# Altium schematic symbol library Componentes.SchLib: 31 symbols
Pins are listed as number, name and electrical type; pins without a type are passive.

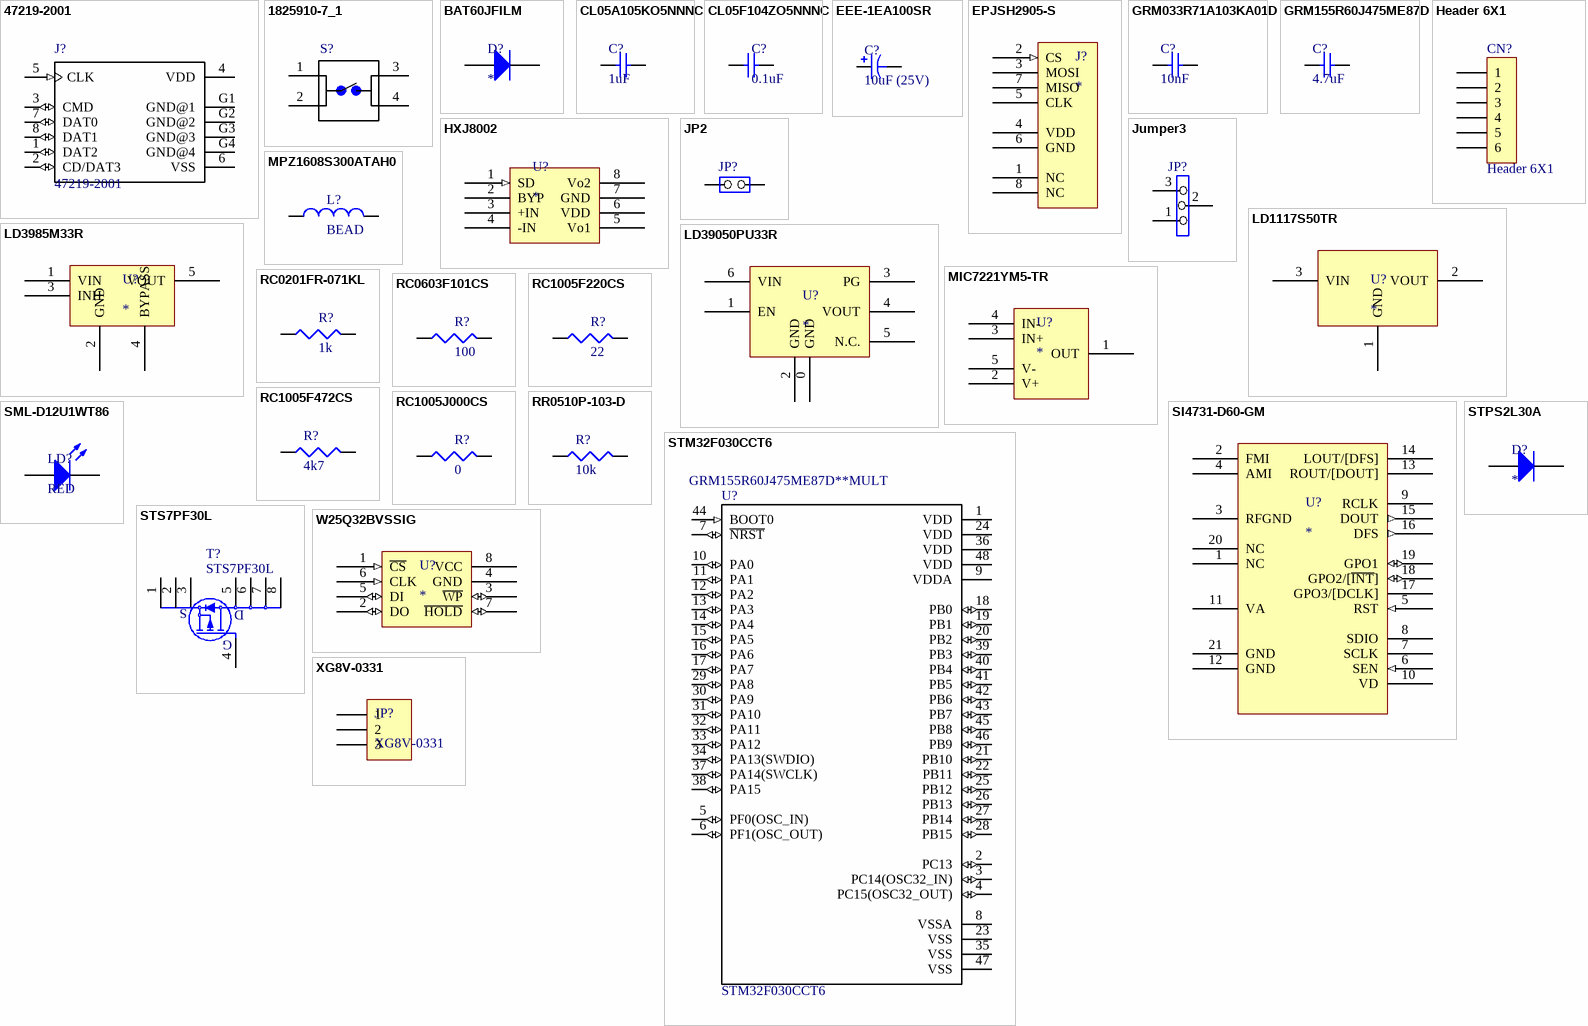
[diagram p0: symbols 47219-2001 to XG8V-0331]

## 47219-2001
designator J?
Conn Micro SD Card SKT 8 POS 1.1mm Solder RA SMD 0.5A/Contact Embossed T/R; MF: Molex; Price: None; MP: 47219-2001; Availability: Unavailable; SnapEDA_Link: https://www.snapeda.com/parts/47219-2001/Molex/view-part/?ref=snap; Package: None; Value: *
footprint MOLEX_47219-2001_47219-2001(Primary)
pins: 1 DAT2 (io), 2 CD/DAT3 (io), 3 CMD (io), 4 VDD (power), 5 CLK (in), 6 VSS (power), 7 DAT0 (io), 8 DAT1 (io), G1 GND@1 (power), G2 GND@2 (power), G3 GND@3 (power), G4 GND@4 (power)

## 1825910-7_1
designator S?, comment Switch  (value not drawn)
FSM4JAH=6MM TACT SWITCH, HIGH TEMP; Manufacturer: TE Connectivity ALCOSWITCH Switches; MF: TE Connectivity; Contact_Current_Rating: 50 mA; Configuration_Pole-Throw: Single Pole - Single Throw; MP: 1825910-7; Circuit: SPST-NO; Switch Function: Off-Mom; Contact Rating @ Voltage: 0.05A @ 24VDC; Actuator Type: Standard; Actuator Height off PCB, Vertical: 5.00mm; Actuator Orientation: Top Actuated; Outline: 6.00mm x 6.00mm; Illumination: Non-Illuminated; Operating Force: 260gf; Actuator Material: Polybutylene Terephthalate (PBT); Switch Travel: 0.25mm; Mechanical Life: 100,000 Cycles; Checked: 0; Link: http://www.te.com/usa-en/product-1825910-7.html; Price: 0.06 USD; Package: None; Availability: Good; SnapEDA_Link: https://www.snapeda.com/parts/1825910-7/TE%2520Connectivity%2520/%2520DEUTSCH/view-part/?ref=snap; EU_RoHS_Compliance: Compliant; Value: *; Supplier 1: Digi-Key; Manufacturer Part Number: 1825910-7; RoHS: RoHS Compliant; Category: Switches; Stock 1: 86118; Pricing 1: 1=0.09, 10=0.088, 25=0.0852, 50=0.0824, 100=0.0779, 250=0.07328, 500=0.07022, 1000=0.05343, 5000=0.04427 (EUR); Packaging: Bulk; Part Status: Active; Mounting Type: Through Hole; Actuator Length, Right Angle: -; Termination Style: PC Pin; Illumination Type, Color: -; Illumination Voltage (Nominal): -; Ingress Protection: -; Features: -; Operating Temperature: -35°C ~ 85°C; ComponentLink1URL: http://www.te.com/commerce/DocumentDelivery/DDEController?Action=srchrtrv&DocNm=1825910&DocType=Customer+Drawing&DocLang=English; ComponentLink1Description: http://www.te.com/commerce/DocumentDelivery/DDEController?Action=srchrtrv&DocNm=1825910&DocType=Customer+Drawing&DocLang=English; Supplier Part Number 1: 450-1804-ND
footprint SW_1825910-7
pins: 1, 2, 3, 4

## BAT60JFILM
designator D?
DIODE SCHOTTKY 10V 3A SOD323; Manufacturer: STMicroelectronics; Manufacturer Part Number: BAT60JFILM; Current - Average Rectified (Io): 3A (DC); Speed: Fast Recovery =< 500ns, > 200mA (Io); Checked: 0; Supplier 1: Digi-Key; RoHS: RoHS Compliant; Category: Discrete Semiconductor Products; Stock 1: 51918; Pricing 1: 1=0.34, 10=0.253, 100=0.1575, 500=0.10778, 1000=0.08292 (EUR); Packaging: Cut Tape (CT); Part Status: Active; Diode Type: Schottky; Capacitance @ Vr, F: -; Mounting Type: Surface Mount; Package / Case: SC-76, SOD-323; Supplier Device Package: SOD-323; Operating Temperature - Junction: 150°C (Max); Base Part Number: BAT60J; ComponentLink1URL: http://www.st.com/content/ccc/resource/technical/document/datasheet/3d/d2/27/1d/20/e3/4d/48/CD00001944.pdf/files/CD00001944.pdf/jcr:content/translations/en.CD00001944.pdf; ComponentLink1Description: http://www.st.com/content/ccc/resource/technical/document/datasheet/3d/d2/27/1d/20/e3/4d/48/CD00001944.pdf/files/CD00001944.pdf/jcr:content/translations/en.CD00001944.pdf; Supplier Part Number 1: 497-3707-1-ND
pins: 1 A, 2 K

## CL05A105KO5NNNC
designator C?, comment 1uF
CAP CER 1UF 16V X5R 0402; Manufacturer: Samsung Electro-Mechanics; Manufacturer Part Number: CL05A105KO5NNNC; Tolerance: ±10%; Notification: Current market demand for these product types have resulted in fluctuating and extending lead times. Lead times may differ.; Supplier 1: Digi-Key; RoHS: RoHS Compliant; Category: Capacitors; Stock 1: 0; Pricing 1: 1=0.07, 10=0.043, 100=0.0188, 500=0.01338, 1000=0.01052, 2500=0.00956, 5000=0.0088 (EUR); Packaging: Cut Tape (CT); Part Status: Active; Voltage - Rated: 16V; Temperature Coefficient: X5R; Operating Temperature: -55°C ~ 85°C; Features: -; Ratings: -; Applications: General Purpose; Mounting Type: Surface Mount, MLCC; Package / Case: 0402 (1005 Metric); Size / Dimension: 0.039" L x 0.020" W (1.00mm x 0.50mm); Height - Seated (Max): -; Thickness (Max): 0.022" (0.55mm); Lead Spacing: -; Lead Style: -; ComponentLink1URL: http://www.samsungsem.com/kr/support/product-search/mlcc/CL05A105KO5NNNC.jsp; ComponentLink1Description: http://www.samsungsem.com/kr/support/product-search/mlcc/CL05A105KO5NNNC.jsp; Supplier Part Number 1: 1276-1067-1-ND
pins: 1, 2

## CL05F104ZO5NNNC
designator C?, comment 0.1uF
CAP CER 0.1UF 16V Y5V 0402; Manufacturer: Samsung Electro-Mechanics; Manufacturer Part Number: CL05F104ZO5NNNC; Tolerance: -20%, +80%; Temperature Coefficient: Y5V (F); Notification: Current market demand for these product types have resulted in fluctuating and extending lead times. Lead times may differ.; Checked: 0; Supplier 1: Digi-Key; RoHS: RoHS Compliant; Category: Capacitors; Stock 1: 100000; Pricing 1: 1=0.09, 10=0.02, 100=0.009, 500=0.00642, 1000=0.00506, 2500=0.0046, 5000=0.00423 (EUR); Packaging: Cut Tape (CT); Part Status: Active; Voltage - Rated: 16V; Operating Temperature: -30°C ~ 85°C; Features: -; Ratings: -; Applications: General Purpose; Mounting Type: Surface Mount, MLCC; Package / Case: 0402 (1005 Metric); Size / Dimension: 0.039" L x 0.020" W (1.00mm x 0.50mm); Height - Seated (Max): -; Thickness (Max): 0.022" (0.55mm); Lead Spacing: -; Lead Style: -; ComponentLink1URL: http://www.samsungsem.com/kr/support/product-search/mlcc/CL05F104ZO5NNNC.jsp; ComponentLink1Description: http://www.samsungsem.com/kr/support/product-search/mlcc/CL05F104ZO5NNNC.jsp; Supplier Part Number 1: 1276-1004-1-ND
pins: 1, 2

## EEE-1EA100SR
designator C?, comment 10uF (25V)
CAP ALUM 10UF 20% 25V SMD; Manufacturer: Panasonic Electronic Components; Manufacturer Part Number: EEE-1EA100SR; Lifetime @ Temp.: 2000 Hrs @ 85°C; Polarization: Polar; Surface Mount Land Size: 0.209" L x 0.209" W (5.30mm x 5.30mm); Checked: 0; Supplier 1: Digi-Key; RoHS: RoHS Compliant; Category: Capacitors; Stock 1: 11324; Pricing 1: 1=0.26, 10=0.182, 100=0.1093, 500=0.082 (EUR); Packaging: Cut Tape (CT); Part Status: Active; Tolerance: ±20%; ESR (Equivalent Series Resistance): -; Operating Temperature: -40°C ~ 85°C; Ratings: AEC-Q200; Applications: Automotive; Lead Spacing: -; Size / Dimension: 0.197" Dia (5.00mm); Height - Seated (Max): 0.213" (5.40mm); Mounting Type: Surface Mount; Package / Case: Radial, Can - SMD; ComponentLink1URL: https://industrial.panasonic.com/cdbs/www-data/pdf/RDE0000/ABA0000C1145.pdf; ComponentLink1Description: https://industrial.panasonic.com/cdbs/www-data/pdf/RDE0000/ABA0000C1145.pdf; Supplier Part Number 1: PCE3894CT-ND
pins: 1, 2

## EPJSH2905-S
designator J?
EPJSH2905-S; Manufacturer: XTAMEN; Checked: 0; Category: T-flash Connector; Manufacturer Part Number: EPJSH2905-S
pins: 1 NC "Not Used", 2 CS (in) "Chip Select", 3 MOSI (oc) "Master out, salve in", 4 VDD (power) "Possitive Supply", 5 CLK (oc) "Serial Clock", 6 GND (power) "Ground", 7 MISO (oe) "Master in Slave Out", 8 NC "Not Used"

## GRM033R71A103KA01D
designator C?, comment 10nF
CAP CER 10000PF 10V X7R 0201; Manufacturer: Murata Electronics North America; Manufacturer Part Number: GRM033R71A103KA01D; Tolerance: ±10%; Notification: Current market demand for these product types have resulted in fluctuating and extending lead times. Lead times may differ.; Checked: 0; Supplier 1: Digi-Key; RoHS: RoHS Compliant; Category: Capacitors; Stock 1: 150000; Pricing 1: 1=0.09, 10=0.028, 100=0.0126, 500=0.009, 1000=0.00707, 2500=0.00643, 5000=0.00591 (EUR); Packaging: Cut Tape (CT); Part Status: Active; Voltage - Rated: 10V; Temperature Coefficient: X7R; Operating Temperature: -55°C ~ 125°C; Features: -; Ratings: -; Applications: General Purpose; Mounting Type: Surface Mount, MLCC; Package / Case: 0201 (0603 Metric); Size / Dimension: 0.024" L x 0.012" W (0.60mm x 0.30mm); Height - Seated (Max): -; Thickness (Max): 0.013" (0.33mm); Lead Spacing: -; Lead Style: -; ComponentLink1URL: https://www.murata.com/~/media/webrenewal/support/library/catalog/products/capacitor/mlcc/c02e.ashx?la=en-us; ComponentLink1Description: https://www.murata.com/~/media/webrenewal/support/library/catalog/products/capacitor/mlcc/c02e.ashx?la=en-us; Supplier Part Number 1: 490-3194-1-ND
pins: 1, 2

## GRM155R60J475ME87D
designator C?, comment 4.7uF
CAP CER 4.7UF 6.3V X5R 0402; Manufacturer: Murata Electronics North America; Manufacturer Part Number: GRM155R60J475ME87D; Tolerance: ±20%; Notification: Current market demand for these product types have resulted in fluctuating and extending lead times. Lead times may differ.; Checked: 0; Supplier 1: Digi-Key; RoHS: RoHS Compliant; Category: Capacitors; Stock 1: 100000; Pricing 1: 1=0.15, 10=0.11, 100=0.0516, 500=0.03616, 1000=0.02994, 2500=0.02787, 5000=0.02549 (EUR); Packaging: Cut Tape (CT); Part Status: Active; Voltage - Rated: 6.3V; Temperature Coefficient: X5R; Operating Temperature: -55°C ~ 85°C; Features: -; Ratings: -; Applications: General Purpose; Mounting Type: Surface Mount, MLCC; Package / Case: 0402 (1005 Metric); Size / Dimension: 0.039" L x 0.020" W (1.00mm x 0.50mm); Height - Seated (Max): -; Thickness (Max): 0.022" (0.55mm); Lead Spacing: -; Lead Style: -; ComponentLink1URL: https://www.murata.com/~/media/webrenewal/support/library/catalog/products/capacitor/mlcc/c02e.ashx?la=en-us; ComponentLink1Description: https://www.murata.com/~/media/webrenewal/support/library/catalog/products/capacitor/mlcc/c02e.ashx?la=en-us; Supplier Part Number 1: 490-5408-1-ND
pins: 1, 2

## Header 6X1
designator CN?
Header, 6-Pin, Single row; LatestRevisionDate: 17-Jul-2002; LatestRevisionNote: Re-released for DXP Platform.; Publisher: Altium Limited
footprint HDR2X17 (Connector; Header; 17x2 Position)
signal-integrity model Connector
footprint 1*6P (Footprint not found)
pins: 1, 2, 3, 4, 5, 6

## HXJ8002
designator U?
Miniature Audio Amplifier; Manufacturer: Income Technology; Manufacturer Part Number: HXJ8002; Checked: 0; Category: Integrated Circuits (ICs)
footprint SOP127P600X175-8N SOP-8 (SOP, 8-Leads, Body 4,90x3,90mm, Pitch 1,27mm, IPC Medium Density)
pins: 1 SD (in) "The device enters in shutdown mode when a high level is  applied on this pin", 2 BYP "Bypass capacitor pin which provides the common mode voltage", 3 +IN "Positive input of the first amplifier, receives the common mode voltage", 4 -IN "Negative input of the first amplifier, receives the audio input  signal", 5 Vo1 "Negative output", 6 VDD (power) "Analog VDD input supply.", 7 GND (power) "Ground connection for circuitry.", 8 Vo2 "Positive output"

## JP2
designator JP?
Checked: 0
footprint SIP2/2.54
pins: 1 COMMON, 2 NO

## Jumper3
designator JP?
footprint SIP3 (Footprint not found)
pins: 1, 2, 3

## LD1117S50TR
designator U?
IC REG LINEAR 5V 800MA SOT223; Manufacturer: STMicroelectronics; Manufacturer Part Number: LD1117S50TR; Output Configuration: Positive; Output Type: Fixed; Voltage - Input (Max): 15V; Voltage Dropout (Max): 1.2V @ 800mA; PSRR: 75dB (120Hz); Protection Features: Over Current, Over Temperature; Checked: 0; Supplier 1: Digi-Key; RoHS: RoHS Compliant; Category: Integrated Circuits (ICs); Stock 1: 0; Pricing 1: 1=0.36, 10=0.307, 100=0.2292, 500=0.1801, 1000=0.13917 (EUR); Packaging: Cut Tape (CT); Part Status: Active; Voltage - Output (Min/Fixed): 5V; Voltage - Output (Max): -; Current - Output: 800mA; Control Features: -; Operating Temperature: 0°C ~ 125°C; Mounting Type: Surface Mount; Package / Case: TO-261-4, TO-261AA; Supplier Device Package: SOT-223; Base Part Number: LD1117; ComponentLink1URL: http://www.st.com/content/ccc/resource/technical/document/datasheet/99/3b/7d/91/91/51/4b/be/CD00000544.pdf/files/CD00000544.pdf/jcr:content/translations/en.CD00000544.pdf; ComponentLink1Description: http://www.st.com/content/ccc/resource/technical/document/datasheet/99/3b/7d/91/91/51/4b/be/CD00000544.pdf/files/CD00000544.pdf/jcr:content/translations/en.CD00000544.pdf; Supplier Part Number 1: 497-6447-1-ND
pins: 1 GND (power), 2 VOUT (power), 3 VIN (power)

## LD3985M33R
designator U?
IC REG LINEAR 3.3V 150MA SOT23-5; Manufacturer: STMicroelectronics; Manufacturer Part Number: LD3985M33R; Output Configuration: Positive; Output Type: Fixed; Voltage - Input (Max): 6V; Voltage Dropout (Max): 0.1V @ 150mA; PSRR: 60dB ~ 50dB (1kHz ~ 10kHz); Control Features: Enable; Protection Features: Over Current, Over Temperature; Checked: 0; Supplier 1: Digi-Key; RoHS: RoHS Compliant; Category: Integrated Circuits (ICs); Stock 1: 4402; Pricing 1: 1=0.53, 10=0.462, 100=0.3544, 500=0.28016, 1000=0.22413 (EUR); Packaging: Cut Tape (CT); Part Status: Active; Voltage - Output (Min/Fixed): 3.3V; Voltage - Output (Max): -; Current - Output: 150mA; Operating Temperature: -40°C ~ 125°C; Mounting Type: Surface Mount; Package / Case: SC-74A, SOT-753; Supplier Device Package: SOT-23-5; Base Part Number: LD3985; ComponentLink1URL: http://www.st.com/content/ccc/resource/technical/document/datasheet/group2/96/39/79/10/c9/1a/48/92/CD00003395/files/CD00003395.pdf/jcr:content/translations/en.CD00003395.pdf; ComponentLink1Description: http://www.st.com/content/ccc/resource/technical/document/datasheet/group2/96/39/79/10/c9/1a/48/92/CD00003395/files/CD00003395.pdf/jcr:content/translations/en.CD00003395.pdf; Supplier Part Number 1: 497-3504-1-ND
pins: 1 VIN "Input voltage of the LDO", 2 GND "Common ground", 3 INH ""Inhibit input voltage: ON mode when VINH  1.2 V, OFF mode when VINH", 4 BYPASS " 0.4 V (Do not leave it floating, not internally pulled down/up)"", 5 VOUT "Bypass pin: an external capacitor (usually 10 nF) has to be connected to minimize noise voltage"

## LD39050PU33R
designator U?
IC REG LINEAR 3.3V 500MA 6DFN; Manufacturer: STMicroelectronics; Manufacturer Part Number: LD39050PU33R; Output Configuration: Positive; Output Type: Fixed; Voltage - Input (Max): 5.5V; Voltage Dropout (Max): 0.4V @ 500mA; PSRR: 65dB ~ 62dB (1kHz ~ 10kHz); Control Features: Enable, Power Good; Protection Features: Over Current, Over Temperature, Short Circuit; Checked: 0; Supplier 1: Digi-Key; RoHS: RoHS Compliant; Category: Integrated Circuits (ICs); Stock 1: 7317; Pricing 1: 1=0.95, 10=0.853, 100=0.6645, 500=0.54894, 1000=0.43337 (EUR); Packaging: Cut Tape (CT); Part Status: Active; Voltage - Output (Min/Fixed): 3.3V; Voltage - Output (Max): -; Current - Output: 500mA; Operating Temperature: -40°C ~ 125°C; Mounting Type: Surface Mount; Package / Case: 6-VDFN Exposed Pad; Supplier Device Package: 6-DFN (3x3); Base Part Number: LD39050; ComponentLink1URL: http://www.st.com/content/ccc/resource/technical/document/datasheet/12/43/cc/93/21/f6/41/66/CD00227527.pdf/files/CD00227527.pdf/jcr:content/translations/en.CD00227527.pdf; ComponentLink1Description: http://www.st.com/content/ccc/resource/technical/document/datasheet/12/43/cc/93/21/f6/41/66/CD00227527.pdf/files/CD00227527.pdf/jcr:content/translations/en.CD00227527.pdf; Supplier Part Number 1: 497-8716-1-ND
pins: 0 GND "Exposed pad must be connected to GND", 1 EN "Enable pin logic input: low = shutdown, high = active", 2 GND "Common ground", 3 PG "Power Good", 4 VOUT "Output voltage", 5 N.C. "Not connected", 6 VIN "Input voltage of the LDO"

## MIC7221YM5-TR
designator U?
IC COMPARATOR R-R SOT-23-5; Manufacturer: Microchip Technology; Manufacturer Part Number: MIC7221YM5-TR; Output Type: Open Drain; Voltage - Supply, Single/Dual (±): 2.2 V ~ 10 V; Voltage - Input Offset (Max): 10mV @ 5V; Current - Input Bias (Max): 0.5pA @ 5V; Current - Quiescent (Max): 25µA; CMRR, PSRR (Typ): 70dB CMRR, 90dB PSRR; Propagation Delay (Max): 5µs; Supplier 1: Digi-Key; RoHS: RoHS Compliant; Category: Integrated Circuits (ICs); Stock 1: 5779; Pricing 1: 1=0.23, 25=0.1928 (EUR); Packaging: Cut Tape (CT); Part Status: Active; Type: General Purpose; Current - Output (Typ): -; Hysteresis: -; Operating Temperature: -40°C ~ 85°C; Package / Case: SC-74A, SOT-753; Mounting Type: Surface Mount; Supplier Device Package: SOT-23-5; Base Part Number: MIC7221; ComponentLink1URL: http://www.microchip.com/mymicrochip/filehandler.aspx?ddocname=en580607; ComponentLink1Description: http://www.microchip.com/mymicrochip/filehandler.aspx?ddocname=en580607; Supplier Part Number 1: 576-2901-1-ND
footprint SOT95P280X145-5N  SOT-23-5 (M5) (SOT23, 5-Leads, Body 2,90x2,80mm, Pitch 0,95mm, IPC Medium Density)
pins: 1 OUT (power) "Amplifier output", 2 V+ (power) "Positive Supply", 3 IN+ "Noninverting Input", 4 IN- "Inverting Input", 5 V- (power) "Negative Supply"

## MPZ1608S300ATAH0
designator L?, comment BEAD
FERRITE BEAD 30 OHM 0603 1LN; Manufacturer: TDK Corporation; Manufacturer Part Number: MPZ1608S300ATAH0; Filter Type: Power Line; Current Rating (Max): 5A; DC Resistance (DCR) (Max): 10 mOhm; Checked: 0; Circuit: SPST-NO; Switch Function: Off-Mom; Contact Rating @ Voltage: 0.05A @ 24VDC; Actuator Type: Standard; Actuator Height off PCB, Vertical: 5.00mm; Actuator Orientation: Top Actuated; Outline: 6.00mm x 6.00mm; Illumination: Non-Illuminated; Operating Force: 260gf; Actuator Material: Polybutylene Terephthalate (PBT); Switch Travel: 0.25mm; Mechanical Life: 100,000 Cycles; Supplier 1: Digi-Key; RoHS: RoHS Compliant; Category: Filters; Stock 1: 34098; Pricing 1: 1=0.09, 10=0.067, 25=0.0608, 50=0.0548, 100=0.0401, 250=0.02916, 500=0.02674, 1000=0.02309 (EUR); Packaging: Cut Tape (CT); Part Status: Active; Ratings: -; Operating Temperature: -55°C ~ 125°C; Package / Case: 0603 (1608 Metric); Mounting Type: Surface Mount; Height (Max): 0.030" (0.75mm); Size / Dimension: 0.063" L x 0.032" W (1.60mm x 0.80mm); ComponentLink1URL: https://product.tdk.com/info/en/catalog/datasheets/beads_commercial_power_mpz1608_en.pdf; ComponentLink1Description: https://product.tdk.com/info/en/catalog/datasheets/beads_commercial_power_mpz1608_en.pdf; Supplier Part Number 1: 445-1562-1-ND; Supplier 2: Digi-Key; Stock 2: 86118; Pricing 2: 1=0.09, 10=0.088, 25=0.0852, 50=0.0824, 100=0.0779, 250=0.07328, 500=0.07022, 1000=0.05343, 5000=0.04427 (EUR); Actuator Length, Right Angle: -; Termination Style: PC Pin; Illumination Type, Color: -; Illumination Voltage (Nominal): -; Ingress Protection: -; Features: -; ComponentLink2URL: http://www.te.com/commerce/DocumentDelivery/DDEController?Action=srchrtrv&DocNm=1825910&DocType=Customer+Drawing&DocLang=English; ComponentLink2Description: http://www.te.com/commerce/DocumentDelivery/DDEController?Action=srchrtrv&DocNm=1825910&DocType=Customer+Drawing&DocLang=English
pins: 1, 2

## RC0201FR-071KL
designator R?, comment 1k
RES SMD 1K OHM 1% 1/20W 0201; Manufacturer: Yageo; Manufacturer Part Number: RC0201FR-071KL; Power (Watts): 0.05W, 1/20W; Temperature Coefficient: ±200ppm/°C; Checked: 0; Supplier 1: Digi-Key; RoHS: RoHS Compliant; Category: Resistors; Stock 1: 1634525; Pricing 1: 1=0.09, 10=0.039, 100=0.0159, 1000=0.00715, 2500=0.0062, 5000=0.00513 (EUR); Packaging: Cut Tape (CT); Part Status: Active; Tolerance: ±1%; Composition: Thick Film; Features: Moisture Resistant; Operating Temperature: -55°C ~ 125°C; Package / Case: 0201 (0603 Metric); Supplier Device Package: 0201; Size / Dimension: 0.024" L x 0.012" W (0.60mm x 0.30mm); Height - Seated (Max): 0.010" (0.26mm); Failure Rate: -; ComponentLink1URL: http://www.yageo.com/documents/recent/PYu-RC_Group_51_RoHS_L_9.pdf; ComponentLink1Description: http://www.yageo.com/documents/recent/PYu-RC_Group_51_RoHS_L_9.pdf; Supplier Part Number 1: 311-1KMCT-ND
pins: 1, 2

## RC0603F101CS
designator R?, comment 100
RES SMD 100 OHM 1% 1/20W 0201; Manufacturer: Samsung Electro-Mechanics; Manufacturer Part Number: RC0603F101CS; Power (Watts): 0.05W, 1/20W; Temperature Coefficient: ±250ppm/°C; Supplier 1: Digi-Key; RoHS: RoHS Compliant; Category: Resistors; Stock 1: 95449; Pricing 1: 1=0.09, 10=0.067, 100=0.0273, 1000=0.01227, 2500=0.01064, 5000=0.00879 (EUR); Packaging: Cut Tape (CT); Part Status: Active; Tolerance: ±1%; Composition: Thick Film; Features: Moisture Resistant; Operating Temperature: -55°C ~ 125°C; Package / Case: 0201 (0603 Metric); Supplier Device Package: 0201; Size / Dimension: 0.024" L x 0.012" W (0.60mm x 0.30mm); Height - Seated (Max): 0.010" (0.26mm); Failure Rate: -; ComponentLink1URL: http://www.samsungsem.com/kr/support/product-search/chip-resistor/RC0603F101CS.jsp; ComponentLink1Description: http://www.samsungsem.com/kr/support/product-search/chip-resistor/RC0603F101CS.jsp; Supplier Part Number 1: 1276-3601-1-ND
pins: 1, 2

## RC1005F220CS
designator R?, comment 22
RES SMD 22 OHM 1% 1/16W 0402; Manufacturer: Samsung Electro-Mechanics; Manufacturer Part Number: RC1005F220CS; Power (Watts): 0.063W, 1/16W; Temperature Coefficient: ±100ppm/°C; Supplier 1: Digi-Key; RoHS: RoHS Compliant; Category: Resistors; Stock 1: 3036365; Pricing 1: 1=0.09, 10=0.018, 100=0.0074, 1000=0.00332, 2500=0.00288, 5000=0.00238 (EUR); Packaging: Cut Tape (CT); Part Status: Active; Tolerance: ±1%; Composition: Thick Film; Features: Moisture Resistant; Operating Temperature: -55°C ~ 155°C; Package / Case: 0402 (1005 Metric); Supplier Device Package: 0402; Size / Dimension: 0.039" L x 0.020" W (1.00mm x 0.50mm); Height - Seated (Max): 0.016" (0.40mm); Failure Rate: -; ComponentLink1URL: http://www.samsungsem.com/kr/support/product-search/chip-resistor/RC1005F220CS.jsp; ComponentLink1Description: http://www.samsungsem.com/kr/support/product-search/chip-resistor/RC1005F220CS.jsp; Supplier Part Number 1: 1276-3451-1-ND
pins: 1, 2

## RC1005F472CS
designator R?, comment 4k7
RES SMD 4.7K OHM 1% 1/16W 0402; Manufacturer: Samsung Electro-Mechanics; Manufacturer Part Number: RC1005F472CS; Power (Watts): 0.063W, 1/16W; Temperature Coefficient: ±100ppm/°C; Checked: 0; Supplier 1: Digi-Key; RoHS: RoHS Compliant; Category: Resistors; Stock 1: 1137263; Pricing 1: 1=0.09, 10=0.018, 100=0.0074, 1000=0.00332, 2500=0.00288, 5000=0.00238 (EUR); Packaging: Cut Tape (CT); Part Status: Active; Tolerance: ±1%; Composition: Thick Film; Features: Moisture Resistant; Operating Temperature: -55°C ~ 155°C; Package / Case: 0402 (1005 Metric); Supplier Device Package: 0402; Size / Dimension: 0.039" L x 0.020" W (1.00mm x 0.50mm); Height - Seated (Max): 0.016" (0.40mm); Failure Rate: -; ComponentLink1URL: http://www.samsungsem.com/kr/support/product-search/chip-resistor/RC1005F472CS.jsp; ComponentLink1Description: http://www.samsungsem.com/kr/support/product-search/chip-resistor/RC1005F472CS.jsp; Supplier Part Number 1: 1276-3466-1-ND
pins: 1, 2

## RC1005J000CS
designator R?, comment 0
RES SMD 0 OHM JUMPER 1/16W 0402; Manufacturer: Samsung Electro-Mechanics; Manufacturer Part Number: RC1005J000CS; Power (Watts): 0.063W, 1/16W; Supplier 1: Digi-Key; RoHS: RoHS Compliant; Category: Resistors; Stock 1: 8346359; Pricing 1: 1=0.09, 10=0.014, 25=0.01, 50=0.0076, 100=0.0056, 250=0.00424, 500=0.0034, 1000=0.00251, 5000=0.0018 (EUR); Packaging: Cut Tape (CT); Part Status: Active; Tolerance: Jumper; Composition: Thick Film; Features: Moisture Resistant; Temperature Coefficient: -; Operating Temperature: -55°C ~ 155°C; Package / Case: 0402 (1005 Metric); Supplier Device Package: 0402; Size / Dimension: 0.039" L x 0.020" W (1.00mm x 0.50mm); Height - Seated (Max): 0.016" (0.40mm); Failure Rate: -; ComponentLink1URL: http://www.samsungsem.com/kr/support/product-search/chip-resistor/RC1005J000CS.jsp; ComponentLink1Description: http://www.samsungsem.com/kr/support/product-search/chip-resistor/RC1005J000CS.jsp; Supplier Part Number 1: 1276-3480-1-ND; Checked: 0
pins: 1, 2

## RR0510P-103-D
designator R?, comment 10k
RES SMD 10K OHM 0.5% 1/16W 0402; Manufacturer: Susumu; Manufacturer Part Number: RR0510P-103-D; Power (Watts): 0.063W, 1/16W; Temperature Coefficient: ±25ppm/°C; Checked: 0; Supplier 1: Digi-Key; RoHS: RoHS Compliant; Category: Resistors; Stock 1: 48944; Pricing 1: 1=0.07, 10=0.062, 100=0.0238, 1000=0.01048, 2500=0.00905, 5000=0.0081 (EUR); Packaging: Cut Tape (CT); Part Status: Active; Tolerance: ±0.5%; Composition: Thin Film; Features: -; Operating Temperature: -55°C ~ 125°C; Package / Case: 0402 (1005 Metric); Supplier Device Package: -; Size / Dimension: 0.039" L x 0.020" W (1.00mm x 0.50mm); Height - Seated (Max): 0.016" (0.40mm); Failure Rate: -; ComponentLink1URL: http://www.susumu.co.jp/common/pdf/n_catalog_partition05_en.pdf; ComponentLink1Description: http://www.susumu.co.jp/common/pdf/n_catalog_partition05_en.pdf; Supplier Part Number 1: RR05P10.0KDCT-ND
pins: 1, 2

## SI4731-D60-GM
designator U?
IC RADIO RX AM/FM/AUX 20QFN; Manufacturer: Silicon Labs; Manufacturer Part Number: SI4731-D60-GM; Frequency: 153kHz ~ 279kHz, 520kHz ~ 1.71MHz, 2.3MHz ~ 26.1MHz, 64MHz ~ 108MHz; Modulation or Protocol: AM, FM, RDS; Data Interface: PCB, Surface Mount; Voltage - Supply: 2.7 V ~ 5.5 V; Checked: 0; Supplier 1: Digi-Key; RoHS: RoHS Compliant; Category: RF/IF and RFID; Stock 1: 34; Pricing 1: 1=14.53, 25=13.9848, 100=13.447, 1000=2.09392 (EUR); Packaging: Tray; Part Status: Active; Sensitivity: -; Data Rate (Max): -; Applications: General Purpose; Current - Receiving: -; Memory Size: -; Antenna Connector: PCB, Surface Mount; Features: -; Operating Temperature: -20°C ~ 85°C; Package / Case: 20-UFQFN Exposed Pad; Supplier Device Package: 20-QFN (3x3); ComponentLink1URL: https://www.silabs.com/Support%20Documents/TechnicalDocs/Si4730-31-34-35-D60.pdf; ComponentLink1Description: https://www.silabs.com/Support%20Documents/TechnicalDocs/Si4730-31-34-35-D60.pdf; Supplier Part Number 1: SI4731-D60-GM-ND
footprint QFN50P300X300X60_HS-17N  Si473x-D60 QFN (QFN, 16-Leads, Body 3,00x3,00mm, Pitch 0,50mm, Thermal Pad 1,70x1,70mm, IPC Medium Density)
pins: 1 NC "No connect. Leave floating.", 2 FMI "FM RF inputs. FMI should be connected to the antenna trace.", 3 RFGND (power) "RF ground. Connect to ground plane on PCB.", 4 AMI "AM RF input. AMI should be connected to the AM antenna.", 5 RST (in) "Device reset input (active low).", 6 SEN (in) "Serial enable input (active low).", 7 SCLK (oc) "Serial clock input.", 8 SDIO (oc) "Serial data input/output.", 9 RCLK "External reference oscillator input.", 10 VD (power) "Digital and I/O supply voltage.", 11 VA (power) "Analog supply voltage. May be connected directly to battery.", 12 GND (power) "Ground. Connect to ground plane on PCB.", 13 ROUT/[DOUT] "Right audio line output for analog output mode.", 14 LOUT/[DFS] "Left audio line output for analog output mode.", 15 DOUT (out) "Digital output data for digital output mode.", 16 DFS (out) "Digital frame synchronization input for digital output mode.", 17 GPO3/[DCLK] "General purpose output, crystal oscillator, or digital bit synchronous clock input in digital output mode.", 18 GPO2/[~{INT}] (io) "General purpose output or interrupt pin.", 19 GPO1 (io) "General purpose output.", 20 NC "No connect. Leave floating.", 21 GND (power) "Ground. Connect to ground plane on PCB."

## SML-D12U1WT86
designator LD?, comment RED
LED RED DIFFUSED 1608 SMD; Manufacturer: Rohm Semiconductor; Manufacturer Part Number: SML-D12U1WT86; Lens Color: White; Millicandela Rating: 63mcd; Lens Style/Size: Rectangle with Flat Top, 1.20mm x 0.80mm; Voltage - Forward (Vf) (Typ): 2.2V; Current - Test: 20mA; Wavelength - Dominant: 620nm; Supplier 1: Digi-Key; RoHS: RoHS Compliant; Category: Optoelectronics; Stock 1: 139539; Pricing 1: 1=0.15, 10=0.116, 25=0.0852, 100=0.0608, 250=0.04128, 500=0.03644, 1000=0.02853 (EUR); Packaging: Cut Tape (CT); Part Status: Active; Color: Red; Lens Transparency: Diffused; Viewing Angle: -; Mounting Type: Surface Mount; Wavelength - Peak: -; Features: -; Package / Case: 0603 (1608 Metric); Supplier Device Package: 1608 (0603); Size / Dimension: 1.60mm L x 0.80mm W; Height (Max): 0.65mm; ComponentLink1URL: https://www.rohm.com/datasheet/SML-D12U1W; ComponentLink1Description: https://www.rohm.com/datasheet/SML-D12U1W; Supplier Part Number 1: SML-D12U1WT86CT-ND
pins: 1 A, 2 K

## STM32F030CCT6
designator U?  Supplier Part Number 1: GRM155R60J475ME87D**MULT
MCU 32-Bit STM32 ARM Cortex M0 RISC 256KB Flash 2.5V/3.3V 48-Pin LQFP Tray; MF: STMicroelectronics; MP: STM32F030CCT6; Price: None; Package: LQFP-48 STMicroelectronics; Availability: Unavailable; SnapEDA_Link: https://www.snapeda.com/parts/STM32F030CCT6/STMicroelectronics/view-part/?ref=snap; Value: *; Supplier 1: Arrow
footprint QFP50P900X900X160-48N
pins: 1 VDD (power), 2 PC13 (io), 3 PC14(OSC32_IN) (io), 4 PC15(OSC32_OUT) (io), 5 PF0(OSC_IN) (io), 6 PF1(OSC_OUT) (io), 7 ~{NRST} (io), 8 VSSA (power), 9 VDDA (power), 10 PA0 (io), 11 PA1 (io), 12 PA2 (io), 13 PA3 (io), 14 PA4 (io), 15 PA5 (io), 16 PA6 (io), 17 PA7 (io), 18 PB0 (io), 19 PB1 (io), 20 PB2 (io), 21 PB10 (io), 22 PB11 (io), 23 VSS (power), 24 VDD (power), 25 PB12 (io), 26 PB13 (io), 27 PB14 (io), 28 PB15 (io), 29 PA8 (io), 30 PA9 (io), 31 PA10 (io), 32 PA11 (io), 33 PA12 (io), 34 PA13(SWDIO) (io), 35 VSS (power), 36 VDD (power), 37 PA14(SWCLK) (io), 38 PA15 (io), 39 PB3 (io), 40 PB4 (io), 41 PB5 (io), 42 PB6 (io), 43 PB7 (io), 44 BOOT0 (in), 45 PB8 (io), 46 PB9 (io), 47 VSS (power), 48 VDD (power)

## STPS2L30A
designator D?
DIODE SCHOTTKY 30V 2A SMA; Manufacturer: STMicroelectronics; Manufacturer Part Number: STPS2L30A; Speed: Fast Recovery =< 500ns, > 200mA (Io); Checked: 0; Supplier 1: Digi-Key; RoHS: RoHS Compliant; Category: Discrete Semiconductor Products; Stock 1: 18699; Pricing 1: 1=0.4, 10=0.342, 100=0.2548, 500=0.20022, 1000=0.15472 (EUR); Packaging: Cut Tape (CT); Part Status: Active; Diode Type: Schottky; Current - Average Rectified (Io): 2A; Capacitance @ Vr, F: -; Mounting Type: Surface Mount; Package / Case: DO-214AC, SMA; Supplier Device Package: SMA; Operating Temperature - Junction: 150°C (Max); Base Part Number: STPS2L30; ComponentLink1URL: http://www.st.com/content/ccc/resource/technical/document/datasheet/62/6b/2e/7f/34/cb/43/55/CD00001633.pdf/files/CD00001633.pdf/jcr:content/translations/en.CD00001633.pdf; ComponentLink1Description: http://www.st.com/content/ccc/resource/technical/document/datasheet/62/6b/2e/7f/34/cb/43/55/CD00001633.pdf/files/CD00001633.pdf/jcr:content/translations/en.CD00001633.pdf; Supplier Part Number 1: 497-3759-1-ND
pins: 1 A, 2 K

## STS7PF30L
designator T?
Supplier 1: Allied Electronics; Supplier Part Number 1: 70341374
footprint Model Name (Footprint not found)
footprint SOT23-6L
footprint SO8 (Footprint not found)
pins: 1 S, 2 S, 3 S, 4 G, 5 D, 6 D, 7 D, 8 D

## W25Q32BVSSIG
designator U?
IC FLASH 32M SPI 104MHZ 8SOIC; Manufacturer: Winbond Electronics; Manufacturer Part Number: W25Q32BVSSIG; Memory Type: Non-Volatile; Memory Size: 32Mb (4M x 8); Write Cycle Time - Word, Page: 3ms; Voltage - Supply: 2.7 V ~ 3.6 V; Checked: 0; Supplier 1: Digi-Key; RoHS: RoHS Compliant; Category: Integrated Circuits (ICs); Stock 1: 0; Pricing 1: 90=0 (EUR); Packaging: Tube; Part Status: Obsolete; Memory Format: FLASH; Technology: FLASH - NOR; Memory Interface: SPI; Operating Temperature: -40°C ~ 85°C (TA); Mounting Type: Surface Mount; Package / Case: 8-SOIC (0.209", 5.30mm Width); Supplier Device Package: 8-SOIC; ComponentLink1URL: https://media.digikey.com/pdf/Data%20Sheets/Winbond%20PDFs/W25Q32BV.pdf; ComponentLink1Description: https://media.digikey.com/pdf/Data%20Sheets/Winbond%20PDFs/W25Q32BV.pdf; Supplier Part Number 1: W25Q32BVSSIG-ND
footprint SOIC127P790X175-8N 8-Pin SOIC 208-mil (SOIC, 8-Leads, Body 5,28x5,28mm, Pitch 1,27mm, IPC Medium Density)
pins: 1 ~{CS} (in) "Chip Select Input", 2 DO (io) "Data Output (Data Input Output)", 3 ~{WP} (io) "Write Protection Input(Data Input Output2)", 4 GND (power) "Groud", 5 DI (io) "Data Input", 6 CLK (in) "Serial clock Input", 7 ~{HOLD} (io) "Hold Input", 8 VCC (power) "Power Supply"

## XG8V-0331
designator JP?
JUMPER PLUG 3POS SING ROW; Manufacturer: Omron Electronics Inc-EMC Div; Connector Type: Header; Pitch - Mating: 0.100" (2.54mm); Number of Positions: 3; Number of Positions Loaded: All; Style: Board to Board or Cable; Shrouding: Unshrouded; Contact Length - Mating: 0.236" (6.00mm); Contact Length - Post: 0.118" (3.00mm); Overall Contact Length: 0.453" (11.50mm); Material Flammability Rating: UL94 V-0; Current Rating: 3A; Voltage Rating: 300V; Checked: 0; Supplier 1: Digi-Key; Manufacturer Part Number: XG8V-0331; RoHS: RoHS Compliant; Category: Connectors, Interconnects; Stock 1: 2878; Pricing 1: 1=0.2, 10=0.187, 100=0.1295, 500=0.10956, 1000=0.08964, 5000=0.07968, 10000=0.07221 (EUR); Packaging: Bulk; Part Status: Active; Contact Type: Male Pin; Number of Rows: 1; Row Spacing - Mating: -; Mounting Type: Through Hole; Termination: Solder; Fastening Type: Push-Pull; Insulation Height: 0.098" (2.50mm); Contact Shape: Square; Contact Finish - Mating: Gold; Contact Finish Thickness - Mating: 5.90µin (0.150µm); Contact Finish - Post: Gold; Contact Material: Brass, Nickel; Insulation Material: Polybutylene Terephthalate (PBT), Glass Filled; Features: -; Operating Temperature: -55°C ~ 105°C; Ingress Protection: -; Insulation Color: Black; Mated Stacking Heights: -; Contact Finish Thickness - Post: 5.90µin (0.150µm); Applications: -; ComponentLink1URL: http://omronfs.omron.com/en_US/ecb/products/pdf/en-opc.pdf; ComponentLink1Description: http://omronfs.omron.com/en_US/ecb/products/pdf/en-opc.pdf; Supplier Part Number 1: Z5375-ND
pins: 1, 2, 3